# Altium schematic symbol library SCH - INTERFACE - ONSEMI FIN1027A.SchLib: 1 symbol
Pins are listed as number, name and electrical type; pins without a type are passive.

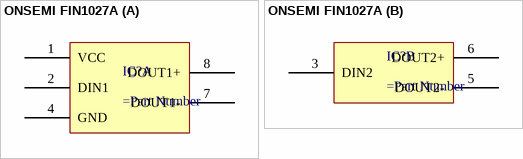
[diagram p0: symbol ONSEMI FIN1027A]

## ONSEMI FIN1027A
designator IC?
part A pins: 1 VCC, 2 DIN1, 4 GND, 7 DOUT1-, 8 DOUT1+
part B pins: 3 DIN2, 5 DOUT2-, 6 DOUT2+